# Altium footprint library SparkFun-Clocks.PCBLIB: 30 footprints (part 2 of 2)
Each footprint in its own frame and in the unit in brackets; x right, y up, seen from the top. Pads: shape width x height; smd on the part's side, far side on the other; paste and mask are expansions set on the pad; w line width, h text height; cw(c..) or ccw(c..) is an arc to the next point about the centre after c.
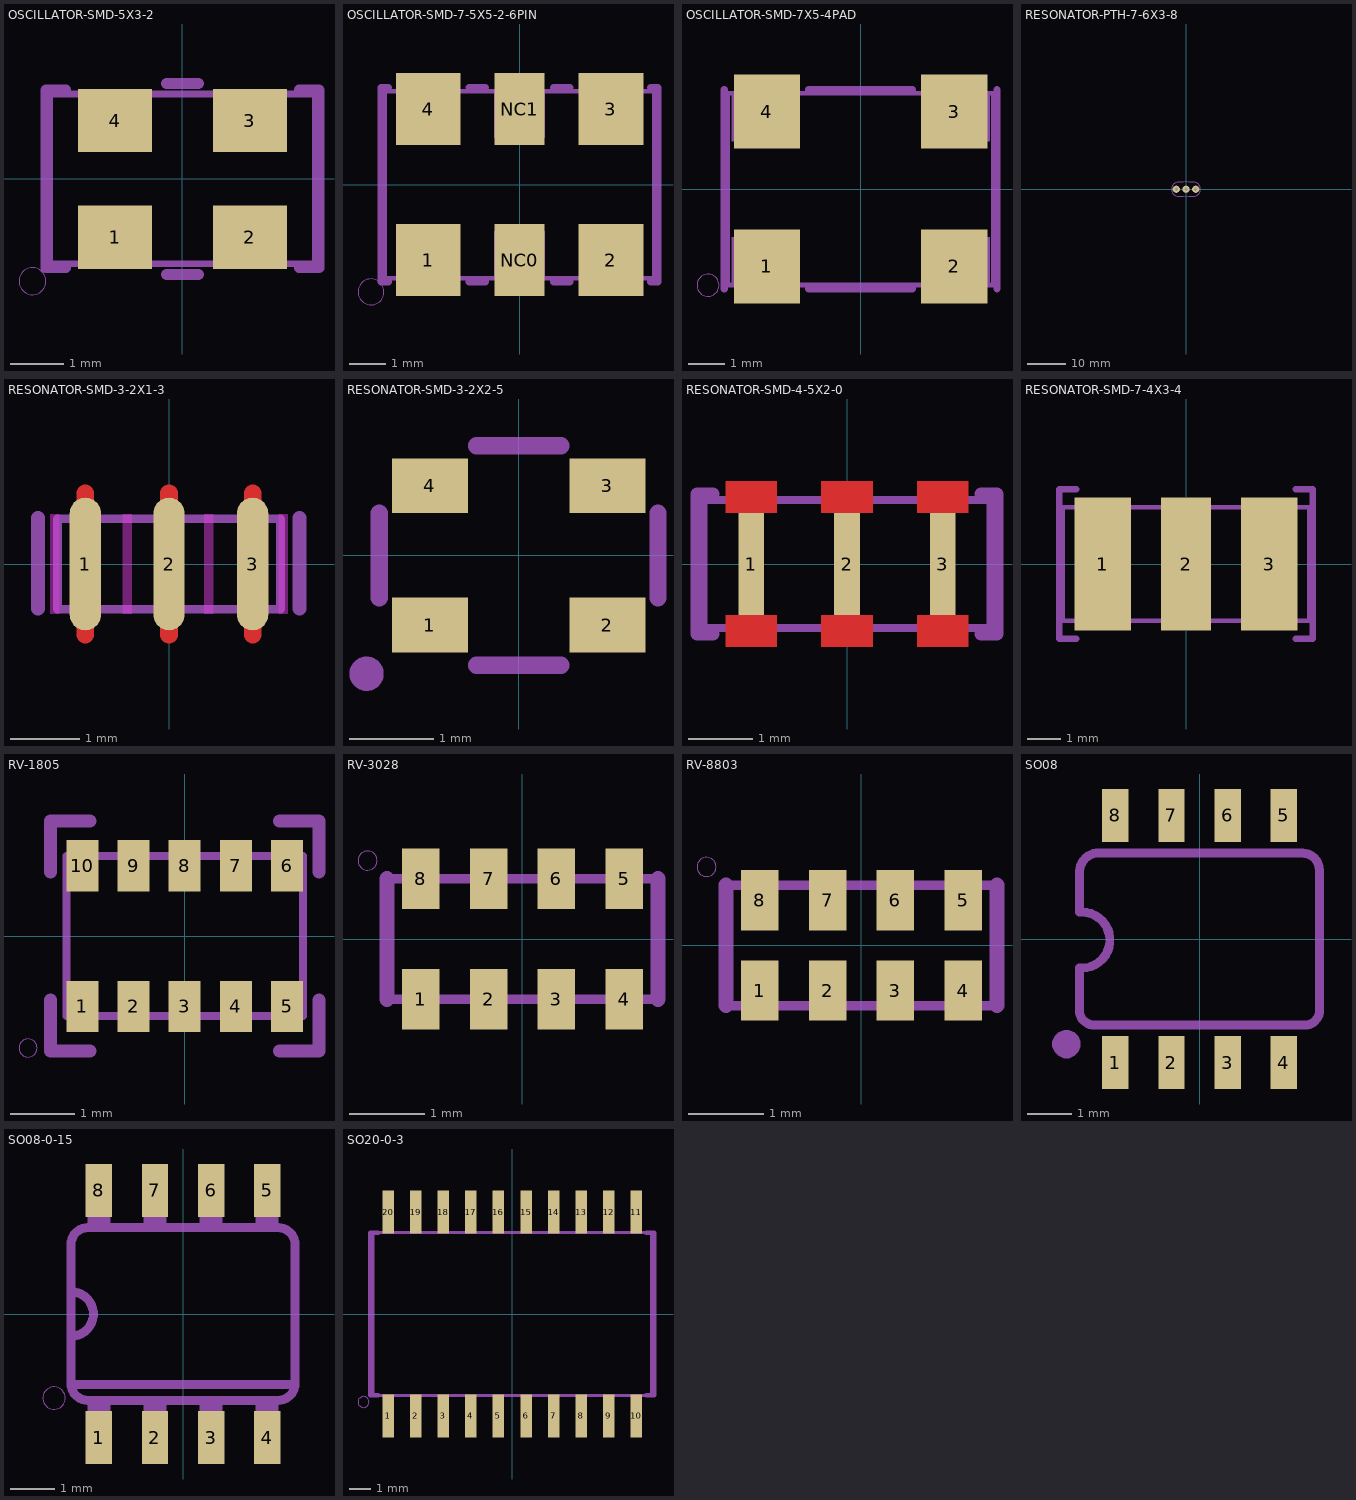
[diagram p1: the footprints below, top view; thin cyan lines are the x and y axes]

## OSCILLATOR-SMD-5X3-2 [mil]
pads (4):
  rect 55x47 smd: 1(-50,-43.31) 2(50,-43.31) 3(50,43.31) 4(-50,43.31)
tDocu:
  lines w5: -98.43,-62.99 -98.43,62.99 98.43,62.99 98.43,-62.99 -98.43,-62.99
tPlace:
  circle w0: c-111.3,-75.87 r10
  lines w8: -86.61,-65.87 -101.3,-65.87 -101.3,65.87 -86.61,65.87 ; -11.81,-70.87 11.81,-70.87 ; -11.81,70.87 11.81,70.87 ; 86.61,-65.87 101.3,-65.87 101.3,65.87 86.61,65.87

## OSCILLATOR-SMD-7-5X5-2-6PIN [mm]
pads (6):
  rect 1.8x2 smd: 1(-2.54,-2.1) 2(2.54,-2.1) 3(2.54,2.1) 4(-2.54,2.1)
  rect 1.4x2 smd: NC0(0,-2.1) NC1(0,2.1)
tDocu:
  drawing of 10 lines, arcs and shapes, not listed
tPlace:
  circle w0: c-4.131,-2.981 r0.36
  lines w0.203: -3.65,-2.7 -3.85,-2.7 -3.85,2.7 -3.65,2.7 ; -1.4,-2.7 -0.95,-2.7 ; -1.4,2.7 -0.95,2.7 ; 0.95,-2.7 1.4,-2.7 ; 0.95,2.7 1.4,2.7 ; 3.65,-2.7 3.85,-2.7 3.85,2.7 3.65,2.7

## OSCILLATOR-SMD-7X5-4PAD [mm]
pads (4):
  rect 1.8x2 smd: 1(-2.54,-2.095) 2(2.54,-2.095) 3(2.54,2.104) 4(-2.54,2.104)
tDocu:
  region: -3.5,2.6 -2.1,2.6 -2.1,1.3 -3.5,1.3
  region: 3.5,-2.6 2.1,-2.6 2.1,-1.3 3.5,-1.3
  region: -3.5,-2.6 -2.1,-2.6 -2.1,-1.3 -3.5,-1.3
  region: 3.5,2.6 2.1,2.6 2.1,1.3 3.5,1.3
  lines w0.127: -3.6,-2.6 3.6,-2.6 3.6,2.6 -3.6,2.6 -3.6,-2.6
tPlace:
  circle w0: c-4.138,-2.605 r0.3
  lines w0.203: -3.7,-2.7 -3.7,2.7 ; -1.4,-2.7 1.4,-2.7 ; -1.4,2.7 1.4,2.7 ; 3.7,-2.7 3.7,2.7

## RESONATOR-PTH-7-6X3-8 [mil]
pads (3):
  round 74 hole 31.5: 1(-100,0) 2(0,0) 3(100,0)
tPlace:
  lines w8: -90,-70 cw(c-79.17,0) -90,70 cw(c0,-735) 90,70 cw(c79.17,0) 90,-70 cw(c0,737.5) -90,-70

## RESONATOR-SMD-3-2X1-3 [mil]
pads (3):
  rrect100% 17.72x75 smd: 1(-47.24,0) 2(0,0) 3(47.24,0)
Top:
  lines w10: -47.24,-40 -47.24,0 -47.24,40 ; 0,-40 0,0 0,40 ; 47.24,-40 47.24,0 47.24,40
Top keep-out:
  region: -67,-28 -67,28 -62,28 -62,-28
  region: -26,-28 -26,28 -21,28 -21,-28
  region: 20,-28 20,28 25,28 25,-28
  region: 62,-28 62,28 67,28 67,-28
Top Solder:
  region: -68.9,-30.3 -68.9,30.1 68.7,30.1 68.7,-30.3
tDocu:
  lines w5: -62.99,-25.59 62.99,-25.59 62.99,25.59 -62.99,25.59 -62.99,-25.59
tPlace:
  lines w8: -73.97,-25.19 -73.97,25.99 ; 73.67,-25.19 73.67,25.99
Mech68:
  drawing of 282 lines, arcs and shapes, not listed

## RESONATOR-SMD-3-2X2-5 [mm]
pads (4):
  rect 0.9x0.65 smd: 1(-1.05,-0.825) 2(1.05,-0.825) 3(1.05,0.825) 4(-1.05,0.825)
tPlace:
  circle w0.203: c-1.8,-1.4 r0.102
  lines w0.203: -1.65,-0.5 -1.65,0.5 ; -0.5,-1.3 0.5,-1.3 ; -0.5,1.3 0.5,1.3 ; 1.65,-0.5 1.65,0.5

## RESONATOR-SMD-4-5X2-0 [mil]
pads (3):
  rect 15.75x62.99 smd: 1(-59.06,0) 2(0,0) 3(59.06,0)
Top:
  region: -15.75,31.5 -15.75,51.18 15.75,51.18 15.75,31.5
  region: -15.75,-51.18 -15.75,-31.5 15.75,-31.5 15.75,-51.18
  region: -74.8,31.5 -74.8,51.18 -43.31,51.18 -43.31,31.5
  region: -74.8,-51.18 -74.8,-31.5 -43.31,-31.5 -43.31,-51.18
  region: 43.31,31.5 43.31,51.18 74.8,51.18 74.8,31.5
  region: 43.31,-51.18 43.31,-31.5 74.8,-31.5 74.8,-51.18
Top Paste:
  region: -74.8,31.5 -74.8,51.18 -43.31,51.18 -43.31,31.5
  region: -15.75,31.5 -15.75,51.18 15.75,51.18 15.75,31.5
  region: 43.31,31.5 43.31,51.18 74.8,51.18 74.8,31.5
  region: -74.8,-51.18 -74.8,-31.5 -43.31,-31.5 -43.31,-51.18
  region: -15.75,-51.18 -15.75,-31.5 15.75,-31.5 15.75,-51.18
  region: 43.31,-51.18 43.31,-31.5 74.8,-31.5 74.8,-51.18
Top Solder:
  region: -78.74,27.56 -78.74,55.12 -39.37,55.12 -39.37,27.56
  region: -19.69,27.56 -19.69,55.12 19.69,55.12 19.69,27.56
  region: 39.37,27.56 39.37,55.12 78.74,55.12 78.74,27.56
  region: 39.37,-55.12 39.37,-27.56 78.74,-27.56 78.74,-55.12
  region: -19.69,-55.12 -19.69,-27.56 19.69,-27.56 19.69,-55.12
  region: -78.74,-55.12 -78.74,-27.56 -39.37,-27.56 -39.37,-55.12
tDocu:
  lines w5: -88.58,-39.37 88.58,-39.37 88.58,39.37 -88.58,39.37 -88.58,-39.37
tPlace:
  lines w8: -82.68,-43.31 -92.52,-43.31 -92.52,43.31 -82.68,43.31 ; 82.68,-43.31 92.52,-43.31 92.52,43.31 82.68,43.31

## RESONATOR-SMD-7-4X3-4 [mm]
pads (3):
  rect 1.7x4 smd: 1(-2.5,0) 3(2.5,0)
  rect 1.5x4 smd: 2(0,0)
tDocu:
  region: -0.6,1.6 0.6,1.6 0.6,-1.6 -0.6,-1.6
  region: -3.1,1.6 -1.9,1.6 -1.9,-1.6 -3.1,-1.6
  region: 1.9,1.6 3.1,1.6 3.1,-1.6 1.9,-1.6
  lines w0.127: -3.7,-1.7 3.7,-1.7 3.7,1.7 -3.7,1.7 -3.7,-1.7
tPlace:
  lines w0.203: -3.3,-2.245 -3.8,-2.245 -3.8,2.245 -3.3,2.245 ; 3.3,-2.245 3.8,-2.245 3.8,2.245 3.3,2.245

## RV-1805 [mil]
pads (11):
  rect 19.69x31.5 smd paste+0: 1(-62.99,-43.31) 2(-31.5,-43.31) 3(0,-43.31) 4(31.5,-43.31) 5(62.99,-43.31) 6(62.99,43.31) 7(31.5,43.31) 8(0,43.31) 9(-31.5,43.31) 10(-62.99,43.31)
  rect 0x0 smd paste+0: 11(0,0)
Top Paste:
  region: -7.38,31.5 -7.38,55.12 7.38,55.12 7.38,31.5
  region: -38.88,31.5 -38.88,55.12 -24.11,55.12 -24.11,31.5
  region: -70.37,31.5 -70.37,55.12 -55.61,55.12 -55.61,31.5
  region: 24.11,31.5 24.11,55.12 38.88,55.12 38.88,31.5
  region: 55.61,31.5 55.61,55.12 70.37,55.12 70.37,31.5
  region: 55.61,-55.12 55.61,-31.5 70.37,-31.5 70.37,-55.12
  region: 24.11,-55.12 24.11,-31.5 38.88,-31.5 38.88,-55.12
  region: -7.38,-55.12 -7.38,-31.5 7.38,-31.5 7.38,-55.12
  region: -38.88,-55.12 -38.88,-31.5 -24.11,-31.5 -24.11,-55.12
  region: -70.37,-55.12 -70.37,-31.5 -55.61,-31.5 -55.61,-55.12
tDocu:
  lines w5: -72.83,-49.21 72.83,-49.21 72.83,49.21 -72.83,49.21 -72.83,-49.21
tPlace:
  circle w0: c-96.46,-68.9 r5.57
  lines w8: -82.68,-39.37 -82.68,-70.87 -58.27,-70.87 ; -82.68,39.37 -82.68,70.87 -58.27,70.87 ; 58.27,-70.87 82.68,-70.87 82.68,-39.37 ; 58.27,70.87 82.68,70.87 82.68,39.37

## RV-3028 [mil]
pads (8):
  rect 19.69x31.5 smd: 1(-53.15,-31.5) 2(-17.72,-31.5) 3(17.72,-31.5) 4(53.15,-31.5) 5(53.15,31.5) 6(17.72,31.5) 7(-17.72,31.5) 8(-53.15,31.5)
tDocu:
  lines w5: -70.87,-31.5 70.87,-31.5 ; -70.87,31.5 70.87,31.5
tPlace:
  circle w0: c-81,41 r5
  lines w8: -70.87,-31.5 -70.87,31.5 ; 70.87,-31.5 70.87,31.5

## RV-8803 [mil]
pads (8):
  rect 19.69x31.5 smd: 1(-53.15,-23.62) 2(-17.72,-23.62) 3(17.72,-23.62) 4(53.15,-23.62) 5(53.15,23.62) 6(17.72,23.62) 7(-17.72,23.62) 8(-53.15,23.62)
tDocu:
  lines w5: -70.87,-31.5 70.87,-31.5 ; -70.87,31.5 70.87,31.5
tPlace:
  circle w0: c-81,41 r5
  lines w8: -70.87,-31.5 -70.87,31.5 ; 70.87,-31.5 70.87,31.5

## SO08 [mil]
pads (8):
  rect 23.62x47.24 smd: 1(-75,-110.24) 2(-25,-110.24) 3(25,-110.24) 4(75,-110.24) 5(75,110.24) 6(25,110.24) 7(-25,110.24) 8(-75,110.24)
tDocu:
  region: -85,-130 -85,-89.5 -65,-89.5 -65,-130
  region: -35,-130 -35,-89.5 -15,-89.5 -15,-130
  region: 15,-130 15,-89.5 35,-89.5 35,-130
  region: 65,-130 65,-89.5 85,-89.5 85,-130
  region: -35,90 -35,130 -15,130 -15,90
  region: 15,90 15,130 35,130 35,90
  region: 65,90 65,130 85,130 85,90
  region: -85,90 -85,130 -65,130 -65,90
tPlace:
  region: -106.25,-93.75 -106.25,-91.26 -108.15,-86.67 -111.67,-83.15 -116.26,-81.25 -118.75,-81.25 -121.24,-81.25 -125.83,-83.15 -129.35,-86.67 -131.25,-91.26 -131.25,-93.75 -131.25,-96.24 -129.35,-100.83 -125.83,-104.35 -121.24,-106.25 -118.75,-106.25 -116.26,-106.25 -111.67,-104.35 -108.15,-100.83 -106.25,-96.24 -106.25,-93.75
  lines w8: -107,-26 -107,-65.56 ccw(c-93.97,-63.6) -92,-76.63 95.94,-76.63 ccw(c93.97,-63.6) 107,-61.63 107,61.63 ccw(c92,61.63) 92,76.63 -92,76.63 ccw(c-90.03,59.66) -107,57.69 ; -107,24 -107,57.19 ; -105,-26 ccw(c-105,-1) -105,24

## SO08-0-15 [mil]
pads (8):
  rect 23.62x47.24 smd: 1(-75,-110.24) 2(-25,-110.24) 3(25,-110.24) 4(75,-110.24) 5(75,110.24) 6(25,110.24) 7(-25,110.24) 8(-75,110.24)
tDocu:
  region: 65,77 65,122 85,122 85,77
  region: -85,-122 -85,-77 -65,-77 -65,-122
  region: -35,-122 -35,-77 -15,-77 -15,-122
  region: 15,-121 15,-76 35,-76 35,-121
  region: 65,-122 65,-77 85,-77 85,-122
  region: 15,77 15,122 35,122 35,77
  region: -35,77 -35,122 -15,122 -15,77
  region: -85,77 -85,122 -65,122 -65,77
tPlace:
  circle w0: c-115,-75 r10
  lines w8: -100,-63 100,-63 ; -100,-20 -100,20 ; -100,-20 -100,-62 ccw(c-85,-62) -85,-77 85,-77 ccw(c85,-62) 100,-62 100,62 ccw(c85,62) 85,77 -85,77 ccw(c-85,62) -100,62 -100,20 ; -100,-20 ccw(c-100,0) -100,20

## SO20-0-3 [mil]
pads (20):
  rect 20.87x77.95 smd: 1(-225,-184.45) 2(-175,-184.45) 3(-125,-184.45) 4(-75,-184.45) 5(-25,-184.45) 6(25,-184.45) 7(75,-184.45) 8(125,-184.45) 9(175,-184.45) 10(225,-184.45) 11(225,184.45) 12(175,184.45) 13(125,184.45) 14(75,184.45) 15(25,184.45) 16(-25,184.45) 17(-75,184.45) 18(-125,184.45) 19(-175,184.45) 20(-225,184.45)
tDocu:
  region: 16.93,147.5 16.93,203.25 33.46,203.25 33.46,147.5
  region: -33.07,147.5 -33.07,203.25 -16.54,203.25 -16.54,147.5
  region: -83.07,147.5 -83.07,203.25 -66.54,203.25 -66.54,147.5
  region: -133.07,147.5 -133.07,203.25 -116.54,203.25 -116.54,147.5
  region: -183.07,147.5 -183.07,203.25 -166.54,203.25 -166.54,147.5
  region: -233.07,147.5 -233.07,203.25 -216.54,203.25 -216.54,147.5
  region: 66.93,147.5 66.93,203.25 83.46,203.25 83.46,147.5
  region: 116.93,147.5 116.93,203.25 133.46,203.25 133.46,147.5
  region: 166.93,147.5 166.93,203.25 183.46,203.25 183.46,147.5
  region: 216.93,147.5 216.93,203.25 233.46,203.25 233.46,147.5
  region: -216.93,-147.5 -216.93,-203.25 -233.46,-203.25 -233.46,-147.5
  region: -166.93,-147.5 -166.93,-203.25 -183.46,-203.25 -183.46,-147.5
  region: -116.93,-147.5 -116.93,-203.25 -133.46,-203.25 -133.46,-147.5
  region: -66.93,-147.5 -66.93,-203.25 -83.46,-203.25 -83.46,-147.5
  region: -16.93,-147.5 -16.93,-203.25 -33.46,-203.25 -33.46,-147.5
  region: 33.07,-147.5 33.07,-203.25 16.54,-203.25 16.54,-147.5
  region: 83.07,-147.5 83.07,-203.25 66.54,-203.25 66.54,-147.5
  region: 133.07,-147.5 133.07,-203.25 116.54,-203.25 116.54,-147.5
  region: 183.07,-147.5 183.07,-203.25 166.54,-203.25 166.54,-147.5
  region: 233.07,-147.5 233.07,-203.25 216.54,-203.25 216.54,-147.5
  lines w5: -252,-147.5 252,-147.5 252,147.5 -252,147.5 -252,-147.5
tPlace:
  circle w0: c-269.41,-159.37 r10
  lines w8: -243,-147.5 -257,-147.5 -257,147.5 -243,147.5 ; 243,-147.5 257,-147.5 257,147.5 243,147.5